# Altium schematic symbol library Schlib.SchLib: 5 symbols
Pins are listed as number, name and electrical type; pins without a type are passive.

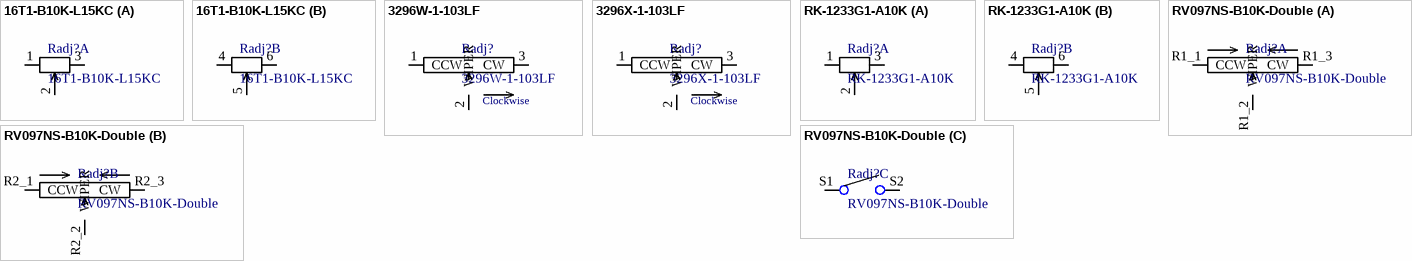
[diagram p0: symbols 16T1-B10K-L15KC to RV097NS-B10K-Double]

## 16T1-B10K-L15KC
designator Radj?
10K Double Linear Potentiometer Panel Mount 18Teeth Shaft
footprint 16T1-XXXX-L15XX
part A pins: 1, 2, 3
part B pins: 4, 5, 6

## 3296W-1-103LF
designator Radj?
footprint 3296W
pins: 1 CCW, 2 WIPER, 3 CW
text: Clockwise

## 3296X-1-103LF
designator Radj?
footprint 3296X
pins: 1 CCW, 2 WIPER, 3 CW
text: Clockwise

## RK-1233G1-A10K
designator Radj?
10K Double Linear Potentiometer Panel Mount 18Teeth Shaft
footprint RK1233G1-XXXX-L15KC
part A pins: 1, 2, 3
part B pins: 4, 5, 6

## RV097NS-B10K-Double
designator Radj?
PCB Mount 18Teeth Shaft Panel Nut
footprint RV097NS-Double (Double potentiometer with a switch)
part A pins: R1_1 CCW, R1_2 WIPER, R1_3 CW
part B pins: R2_1 CCW, R2_2 WIPER, R2_3 CW
part C pins: S1, S2